# Altium schematic symbol library 英雄云台V1.施佳良.SCHLIB: 44 symbols
Pins are listed as number, name and electrical type; pins without a type are passive.

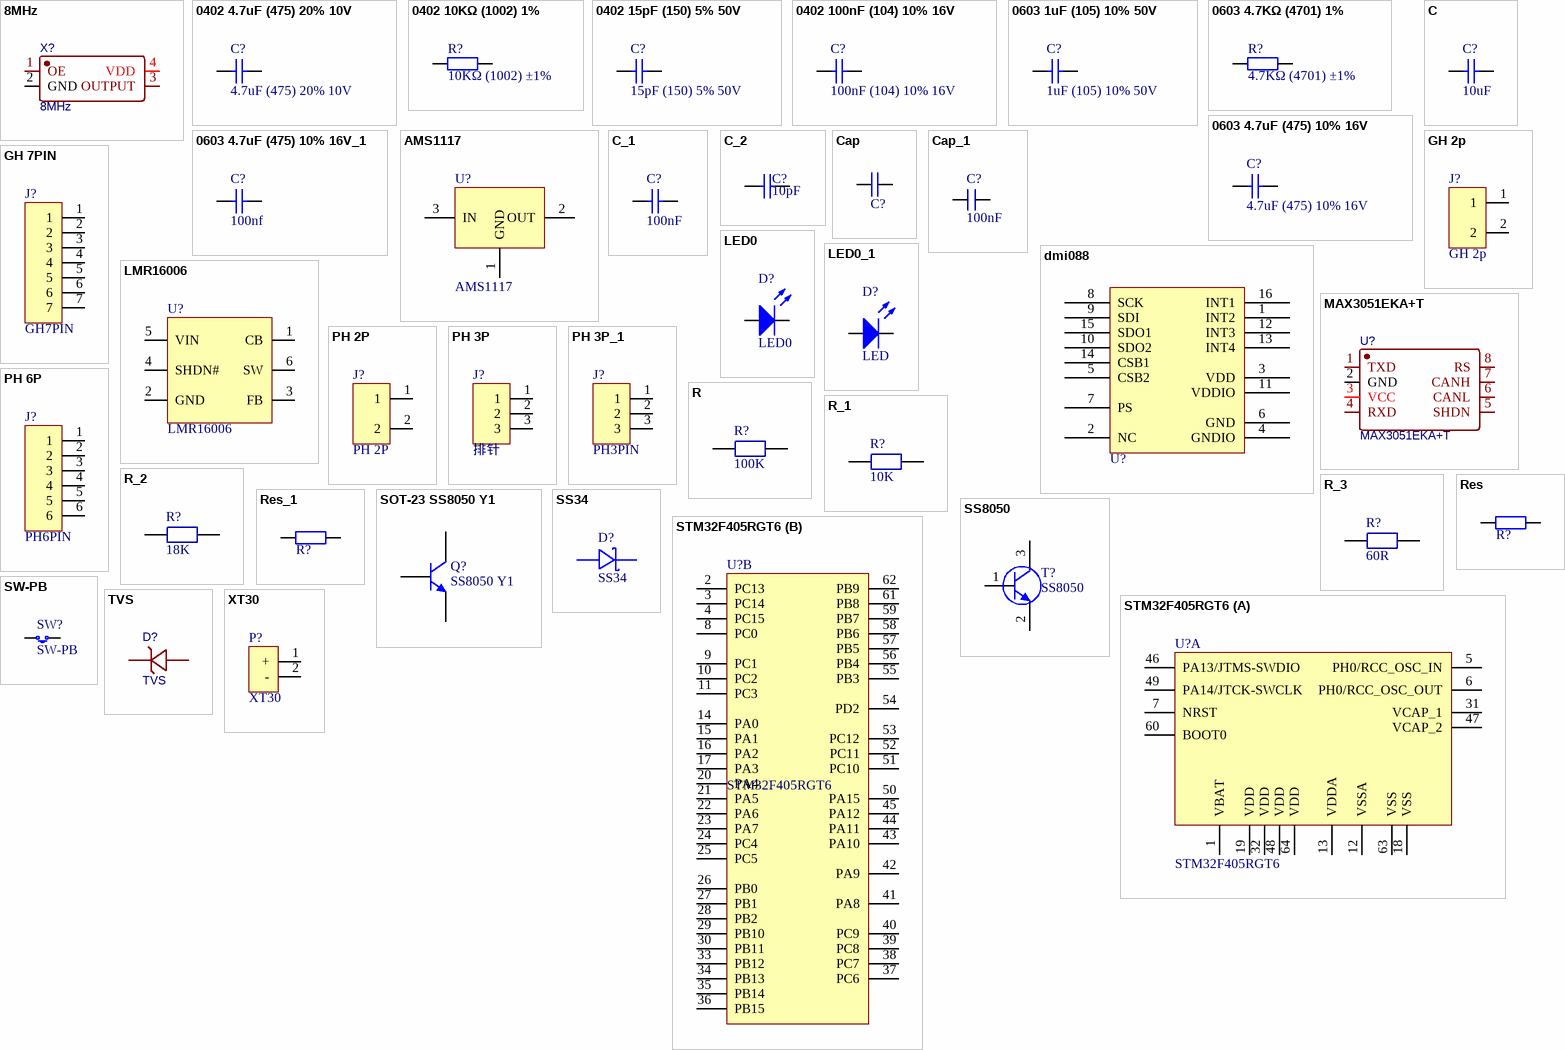
[diagram p0: symbols 8MHz to XT30]

## 8MHz
designator X?
BOM_Manufacturer: Seiko Epson; BOM_Manufacturer Part: SG-8018CG-8.000000MHz-TJHSA; nameAlias: Frequency; Contributor: LCSC; BOM_Supplier: LCSC; BOM_Supplier Part: C390520; spicePre: X; spiceSymbolName: SG-8018CG-8.000000MHZ-TJHSA
footprint OSC-SMD_4P-L2.5-W2.0-BL
pins: 1 OE, 2 GND, 3 OUTPUT, 4 VDD

## 0402 4.7uF (475) 20% 10V
designator C?, comment 4.7uF (475) 20% 10V
贴片电容; ComponentLink1Description: 供应商链接; ComponentLink1URL: http://www.szlcsc.com/product/details_24469.html; Package: 0402; Supplier: LC; SuppliersPartNumber: C23733
footprint 0402_C
footprint 0603_C
pins: 1, 2

## 0402 10KΩ (1002) 1%
designator R?, comment 10KΩ (1002) ±1%
贴片电阻; ComponentLink1Description: 供应商链接; ComponentLink1URL: http://www.szlcsc.com/product/details_26487.html; Package: 0402; Supplier: LC; SuppliersPartNumber: C25744
footprint 0402_R
footprint 0603_R
pins: 1, 2

## 0402 15pF (150) 5% 50V
designator C?, comment 15pF (150) 5% 50V
贴片电容; ComponentLink1Description: 供应商链接; ComponentLink1URL: http://www.szlcsc.com/product/details_1900.html; Package: 0402; Supplier: LC; SuppliersPartNumber: C1548
footprint 0402_C
footprint 0603_C
pins: 1, 2

## 0402 100nF (104) 10% 16V
designator C?, comment 100nF (104) 10% 16V
贴片电容; ComponentLink1Description: 供应商链接; ComponentLink1URL: http://www.szlcsc.com/product/details_1877.html; Package: 0402; Supplier: LC; SuppliersPartNumber: C1525
footprint 0402_C
footprint 0603_C
footprint 0603_C
pins: 1, 2

## 0603 1uF (105) 10% 50V
designator C?, comment 1uF (105) 10% 50V
贴片电容; ComponentLink1Description: 供应商链接; ComponentLink1URL: http://www.szlcsc.com/product/details_16531.html; Package: 0603; Supplier: LC; SuppliersPartNumber: C15849
footprint 0603_C
pins: 1, 2

## 0603 4.7KΩ (4701) 1%
designator R?, comment 4.7KΩ (4701) ±1%
贴片电阻; ComponentLink1Description: 供应商链接; ComponentLink1URL: http://www.szlcsc.com/product/details_23889.html; Package: 0603; Supplier: LC; SuppliersPartNumber: C23162
footprint 0603_R
pins: 1, 2

## 0603 4.7uF (475) 10% 16V
designator C?, comment 4.7uF (475) 10% 16V
贴片电容; ComponentLink1Description: 供应商链接; ComponentLink1URL: http://www.szlcsc.com/product/details_20375.html; Package: 0603; Supplier: LC; SuppliersPartNumber: C19666
footprint 0603_C
footprint 0603_C
pins: 1, 2

## 0603 4.7uF (475) 10% 16V_1
designator C?, comment 100nf
贴片电容; ComponentLink1Description: 供应商链接; ComponentLink1URL: http://www.szlcsc.com/product/details_20375.html; Package: 0603; Supplier: LC; SuppliersPartNumber: C19666
footprint 0603_C
pins: 1, 2

## AMS1117
designator U?
线性稳压3.3V-5V 1A
footprint SOT-223
pins: 1 GND, 2 OUT, 3 IN

## C
designator C?, comment 10uF
ComponentLink1Description: 供应商链接; ComponentLink1URL: http://www.szlcsc.com/product/details_20375.html; Package: 0603; Supplier: LC; SuppliersPartNumber: C19666
footprint 0603C
footprint 1210_C
pins: 1, 2

## C_1
designator C?, comment 100nF
ComponentLink1Description: 供应商链接; ComponentLink1URL: http://www.szlcsc.com/product/details_20375.html; Package: 0603; Supplier: LC; SuppliersPartNumber: C19666
footprint 0603C
footprint 1210_C
footprint 0603_C
pins: 1, 2

## C_2
designator C?, comment 10pF
ComponentLink1Description: 供应商链接; ComponentLink1URL: http://www.szlcsc.com/product/details_20375.html; Package: 0603; Supplier: LC; SuppliersPartNumber: C19666
footprint 0603C
footprint 1210_C
footprint 0603_C
pins: 1, 2

## Cap
designator C?, comment ?uF  (value not drawn)
Published: 8-Jun-2000; LatestRevisionDate: 17-Jul-2002; LatestRevisionNote: Re-released for DXP Platform.; PackageReference: RAD-0.3; Publisher: Altium Limited
footprint 0402_C
footprint 0603_C
footprint 0805_C
footprint 1206_C
footprint 1210_C
pins: 1, 2

## Cap_1
designator C?, comment 100nF
Published: 8-Jun-2000; LatestRevisionDate: 17-Jul-2002; LatestRevisionNote: Re-released for DXP Platform.; PackageReference: RAD-0.3; Publisher: Altium Limited
footprint 0603C (Footprint not found)
footprint 0805-C
footprint 1206C
footprint 1210C
footprint 0402_C
footprint 0805-C (PLUS)
footprint 1812C
footprint 0603_C
pins: 1, 2

## dmi088
designator U?  (value not drawn)
footprint DMI088
pins: 1 INT2, 2 NC, 3 VDD, 4 GNDIO, 5 CSB2, 6 GND, 7 PS, 8 SCK, 9 SDI, 10 SDO2, 11 VDDIO, 12 INT3, 13 INT4, 14 CSB1, 15 SDO1, 16 INT1

## GH 2p
designator J?
footprint GH 2P 立 (1.25MM)
pins: 1 (power), 2

## GH 7PIN
designator J?, comment GH7PIN
footprint PH 6P(DIP)
footprint PH 6P 立
footprint PH 6P 卧
footprint GH7PIN,卧
footprint GH 7P 1.25mm 立 贴 (1.25mm)
pins: 1, 2, 3, 4, 5, 6, 7

## LED0
designator D?
发光二极管; Published: 8-Jun-2000; LatestRevisionDate: 08-Jul-2005; LatestRevisionNote: Mech Layer 1 removed.; PackageReference: LED-0; Publisher: Altium Limited
footprint LED-3mm
footprint LED-0805
footprint LED-3528
footprint LED-5050
footprint LED-5630
footprint LED-0603
footprint LED-5MM
pins: 1 A, 2 K

## LED0_1
designator D?, comment LED
发光二极管; Published: 8-Jun-2000; LatestRevisionDate: 08-Jul-2005; LatestRevisionNote: Mech Layer 1 removed.; PackageReference: LED-0; Publisher: Altium Limited
footprint LED-0603
pins: 1 A, 2 K

## LMR16006
designator U?
footprint 开关电源 (LMR16006)
pins: 1 CB, 2 GND, 3 FB, 4 SHDN#, 5 VIN, 6 SW

## MAX3051EKA+T
designator U?
BOM_Manufacturer: MAXIM; BOM_Supplier: LCSC; BOM_Manufacturer Part: MAX3051EKA+T; BOM_Supplier Part: C112005; BOM_JLCPCB Part Class: Extended Part; spicePre: U; spiceSymbolName: MAX3051EKA+T
footprint SOIC-8_L4.9-W3.9-P1.27-LS6.0-BL
pins: 1 TXD, 2 GND, 3 VCC, 4 RXD, 5 SHDN, 6 CANL, 7 CANH, 8 RS

## PH 2P
designator J?
footprint PH 2P(DIP)
footprint PH 2P 立
footprint PH 2P 卧
pins: 1 (power), 2

## PH 3P
designator J?, comment 排针
footprint PH 3P(DIP)
footprint PH 3P 立
footprint PH 3P 卧
footprint SIP3
pins: 1 (power), 2 (power), 3 (power)

## PH 3P_1
designator J?, comment PH3PIN
footprint PH 3P(DIP)
footprint PH 3P 立
footprint PH 3P 卧
footprint SIP3
footprint PH 3P(DIP)
pins: 1 (power), 2 (power), 3 (power)

## PH 6P
designator J?, comment PH6PIN
footprint PH 6P(DIP)
footprint PH 6P 立
footprint PH 6P 卧
pins: 1, 2, 3, 4, 5, 6

## R
designator R?, comment 100K
footprint 0603R
footprint 0603_R
pins: 1, 2

## R_1
designator R?, comment 10K
footprint 0603R
footprint 0603_R
pins: 1, 2

## R_2
designator R?, comment 18K
footprint 0603R
footprint 0603_R
pins: 1, 2

## R_3
designator R?, comment 60R
footprint 0603R
footprint 0603_R
pins: 1, 2

## Res
designator R?  (value not drawn)
Published: 8-Jun-2000; LatestRevisionDate: 17-Jul-2002; LatestRevisionNote: Re-released for DXP Platform.; PackageReference: AXIAL-0.4; Publisher: Altium Limited
footprint 0402_R
footprint 0603_R
footprint 0805_R
footprint 1206_R
footprint 1210_R
footprint 2512_R
footprint 2010_R
pins: 1, 2

## Res_1
designator R?, comment 10k  (value not drawn)
Published: 8-Jun-2000; LatestRevisionDate: 17-Jul-2002; LatestRevisionNote: Re-released for DXP Platform.; PackageReference: AXIAL-0.4; Publisher: Altium Limited
footprint 0402_R
footprint 0603_R
footprint 0805_R
footprint 1206_R
footprint 1210_R
footprint 2512_R
footprint 2010_R
pins: 1, 2

## SOT-23 SS8050 Y1
designator Q?, comment SS8050 Y1
三极管; ComponentLink1Description: 供应商链接; ComponentLink1URL: http://www.szlcsc.com/product/details_2507.html; Package: SOT-23; Supplier: LC; SuppliersPartNumber: C2150
footprint SOT-23(SOT-23-3)
pins: 1 B, 2 E, 3 C

## SS34
designator D?
footprint SOD-323
pins: 1 K, 2 A

## SS8050
designator T?
NPN; Published: 8-Jun-2000; LatestRevisionDate: 15-Jan-2003; LatestRevisionNote: PCB Footprint 'BCY-W3/D4.7' replaced; DatasheetDocument: 1997; PackageDocument: Sep-1998; PackageReference: TO-92A; Publisher: Altium Limited; Code_JEDEC: TO-92A; ComponentLink1Description: Manufacturer Link; ComponentLink1URL: http://www.fairchildsemi.com/; ComponentLink2Description: Datasheet; ComponentLink2URL: http://www.fairchildsemi.com/ds/2N%2F2N3904.pdf
footprint SOT_23
pins: 1 B, 2 E, 3 C

## STM32F405RGT6
designator U?
footprint LC-LQFP-64_10x10x05P
part A pins: 1 VBAT, 5 PH0/RCC_OSC_IN, 6 PH0/RCC_OSC_OUT, 7 NRST, 12 VSSA, 13 VDDA, 18 VSS, 19 VDD, 31 VCAP_1, 32 VDD, 46 PA13/JTMS-SWDIO, 47 VCAP_2, 48 VDD, 49 PA14/JTCK-SWCLK, 60 BOOT0, 63 VSS, 64 VDD
part B pins: 2 PC13, 3 PC14, 4 PC15, 8 PC0, 9 PC1, 10 PC2, 11 PC3, 14 PA0, 15 PA1, 16 PA2, 17 PA3, 20 PA4, 21 PA5, 22 PA6, 23 PA7, 24 PC4, 25 PC5, 26 PB0, 27 PB1, 28 PB2, 29 PB10 (oc), 30 PB11 (oc), 33 PB12, 34 PB13, 35 PB14 (oc), 36 PB15 (oc), 37 PC6, 38 PC7, 39 PC8, 40 PC9, 41 PA8, 42 PA9, 43 PA10, 44 PA11, 45 PA12, 50 PA15, 51 PC10, 52 PC11, 53 PC12, 54 PD2, 55 PB3, 56 PB4, 57 PB5, 58 PB6, 59 PB7, 61 PB8, 62 PB9

## SW-PB
designator SW?
footprint 按键
pins: 1, 2

## TVS
designator D?
BOM_Manufacturer: MCC(Micro Commercial Components); BOM_Manufacturer Part: SMAJ36A-TP; Contributor: LCSC; BOM_Supplier: LCSC; BOM_Supplier Part: C669031; BOM_JLCPCB Part Class: Extended Part; spicePre: D; spiceSymbolName: SMAJ36A-TP
footprint TVS SOD-123FL_L2.8-W1.8-LS3.7-BI
footprint TVS SOD-123FL_L2.8-W1.8-LS3.7-BI
pins: 1 C, 2 A

## XT30
designator P?
footprint XT30-F
footprint XT30 cewo
footprint XT30PW公
pins: 1 +, 2 -

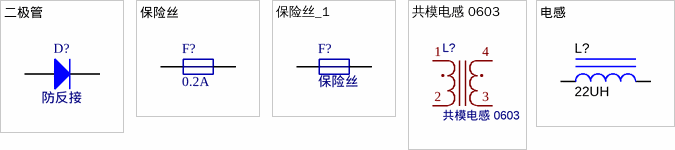
[diagram p1: symbols 二极管 to 电感]

## 二极管
designator D?, comment 防反接
footprint 二极管 SMAJ24A
pins: 1 K, 2 A

## 保险丝
designator F?, comment 0.2A
footprint 保险丝 F1812
pins: 1, 2

## 保险丝_1
designator F?, comment 保险丝
footprint 保险丝 F1812
footprint 保险丝 F0603
pins: 1, 2

## 共模电感 0603
designator L?
BOM_Manufacturer: Prosperity Dielectrics; BOM_Manufacturer Part: SCM2012F-181M-I-LRH; nameAlias: Value; Contributor: LCSC; BOM_Supplier: LCSC; BOM_Supplier Part: C329447; spicePre: L; spiceSymbolName: SCM2012F-181M-I-LRH
footprint 共模电感 IND-SMD_4P-L2.0-W1.2
pins: 1, 2, 3, 4

## 电感
designator L?, comment ValueDisplayed: 22UH  (hidden comment: LPS4018-333MLB)
Inductor, Shielded Drum Core, Ferrite, 33 µH, 0.68 A, 0.42 ohm, SMD; Manufacturer: Coilcraft; Value: 33uH; Ind_H: 33.0E-6; Imax_A: 0.68; Irms: 0.8A @ 40C rise; Isat: 0.68A @ 30% inductance drop; DCR_ohm: 0.42; Value2: 0.68A; SizeAreaWB_mm2: 24.01; SizeArea_mm2: 15.21; SizeX_mm: 3.9; SizeZ_mm: 1.7; AEC Category: Q200; Green_Lifecycle: Not Set; Green_REACh: Incomplete; SymbolVersion: 2008-07-23; CompType: Inductor; PartNumber: LPS4018-333MLB; Value1: 0.42 ohm; Technology: Shielded Drum Core; MountType: SMT; Material: Ferrite; PackageReference: LPS4018; Published: 2008-06-26; Publisher: Texas Instruments; LatestRevisionDate: 2017-05-12; ComponentLink1Description: Datasheet link; ComponentLink1URL: http://www.coilcraft.com/pdfs/lps4018.pdf; RoHS: Y; SizeY_mm: 3.9; AEC Qualified: ?; Green_EU RoHS: Incomplete; Green_EU RoHS-2: Incomplete
footprint 电感 (IND-SMD_L7.1-W6.6)
pins: 1, 2